# Altium schematic symbol library GRM31CR61E476ME44L.SchLib: 1 symbol
Pins are listed as number, name and electrical type; pins without a type are passive.

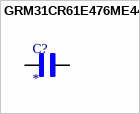
[diagram p0: symbol GRM31CR61E476ME44L]

## GRM31CR61E476ME44L
designator C?
CAP CER 47UF 25V X5R 1206; MF: {'manufacturer': u'Murata Electronics'}; MP: GRM31CR61E476ME44L; Package: None; Price: None; Value: *; Availability: Unavailable
footprint CAPC3216X125N
pins: 1, 2